# Altium footprint library QFN50P700X700X85_HS-38N.PcbLib: 1 footprints
Each footprint in its own frame and in the unit in brackets; x right, y up, seen from the top. Pads: shape width x height; smd on the part's side, far side on the other; paste and mask are expansions set on the pad; w line width, h text height; cw(c..) or ccw(c..) is an arc to the next point about the centre after c.
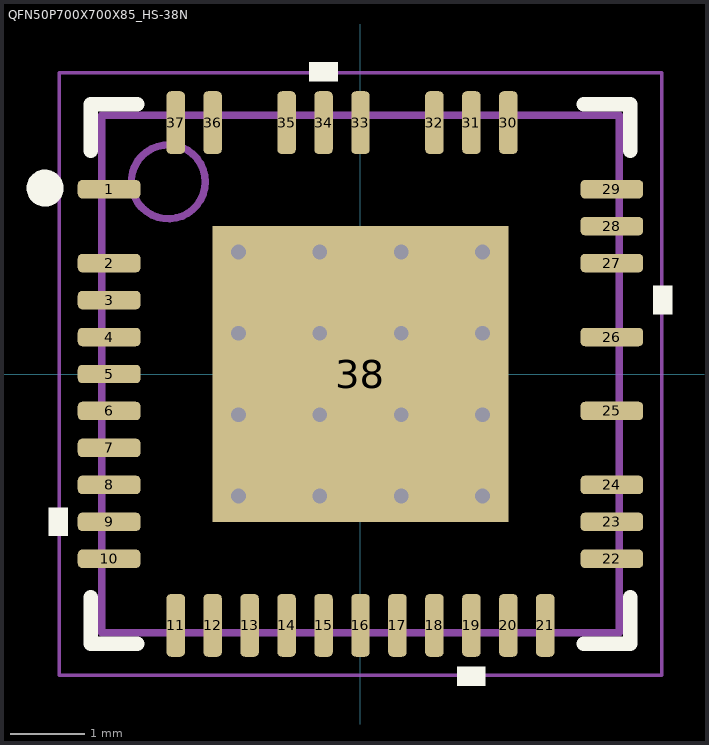
[diagram p0: the footprint, top view; thin cyan lines are the x and y axes]

## QFN50P700X700X85_HS-38N [mm] "QFN, 44-Leads, Body 7.00x7.00mm, Pitch 0.50mm, Thermal Pad 4.00x4.00mm, IPC Medium Density"
height 0.85
pads (38):
  rrect50% 0.85x0.25 smd mask+0.075: 1(-3.4,2.5) 2(-3.4,1.5) 3(-3.4,1) 4(-3.4,0.5) 5(-3.4,0) 6(-3.4,-0.5) 7(-3.4,-1) 8(-3.4,-1.5) 9(-3.4,-2) 10(-3.4,-2.5) 22(3.4,-2.5) 23(3.4,-2) 24(3.4,-1.5) 25(3.4,-0.5) 26(3.4,0.5) 27(3.4,1.5) 28(3.4,2) 29(3.4,2.5)
  rrect50% 0.25x0.85 smd mask+0.075: 11(-2.5,-3.4) 12(-2,-3.4) 13(-1.5,-3.4) 14(-1,-3.4) 15(-0.5,-3.4) 16(0,-3.4) 17(0.5,-3.4) 18(1,-3.4) 19(1.5,-3.4) 20(2,-3.4) 21(2.5,-3.4) 30(2,3.4) 31(1.5,3.4) 32(1,3.4) 33(0,3.4) 34(-0.5,3.4) 35(-1,3.4) 36(-2,3.4) 37(-2.5,3.4)
  rect 4x4 smd paste-99: 38(0,0)
via -0.55,1.65 diameter 0.5 hole 0.2
via 0.55,1.65 diameter 0.5 hole 0.2
via -1.65,0.55 diameter 0.5 hole 0.2
via -0.55,0.55 diameter 0.5 hole 0.2
via 0.55,0.55 diameter 0.5 hole 0.2
via 1.65,0.55 diameter 0.5 hole 0.2
via -1.65,-0.55 diameter 0.5 hole 0.2
via -0.55,-0.55 diameter 0.5 hole 0.2
via 0.55,-0.55 diameter 0.5 hole 0.2
via 1.65,-0.55 diameter 0.5 hole 0.2
via -0.55,-1.65 diameter 0.5 hole 0.2
via 0.55,-1.65 diameter 0.5 hole 0.2
via 1.65,1.65 diameter 0.5 hole 0.2
via -1.65,1.65 diameter 0.5 hole 0.2
via 1.65,-1.65 diameter 0.5 hole 0.2
via -1.65,-1.65 diameter 0.5 hole 0.2
Top Overlay:
  circle w0.25: c-4.267,2.515 r0.125
  region: -0.309,3.962 -0.69,3.962 -0.69,4.216 -0.309,4.216
  region: 3.962,1.191 4.216,1.191 4.216,0.81 3.962,0.81
  region: 1.69,-3.962 1.309,-3.962 1.309,-4.216 1.69,-4.216
  region: -3.962,-1.81 -4.216,-1.81 -4.216,-2.191 -3.962,-2.191
  lines w0.2: -3.65,-3.025 -3.65,-3.65 -3.025,-3.65 ; -3.65,3.025 -3.65,3.65 -3.025,3.65 ; 3.025,-3.65 3.65,-3.65 3.65,-3.025 ; 3.025,3.65 3.65,3.65 3.65,3.025
Top Paste:
  drawing of 9 lines, arcs and shapes, not listed
Keep-Out Layer:
  region: -1.4,1.4 -1.4,-1.4 1.4,-1.4 1.4,1.4
Mechanical 13:
  circle w0.1: c-2.6,2.6 r0.5
  lines w0.1: -3.5,-3.5 -3.5,3.5 3.5,3.5 3.5,-3.5 -3.5,-3.5
Mechanical 15:
  lines w0.05: -4.075,-4.075 -4.075,4.075 4.075,4.075 4.075,-4.075 -4.075,-4.075
  lines w0.1: -0.5,0 0.5,0 ; 0,-0.5 0,0.5
3D body "QFN37_7X7_TRI.step": height 0.89, standoff 0, extent -3.505,-3.505 3.505,3.505